# Altium schematic symbol library AD100.SchLib: 115 symbols
Pins are listed as number, name and electrical type; pins without a type are passive.

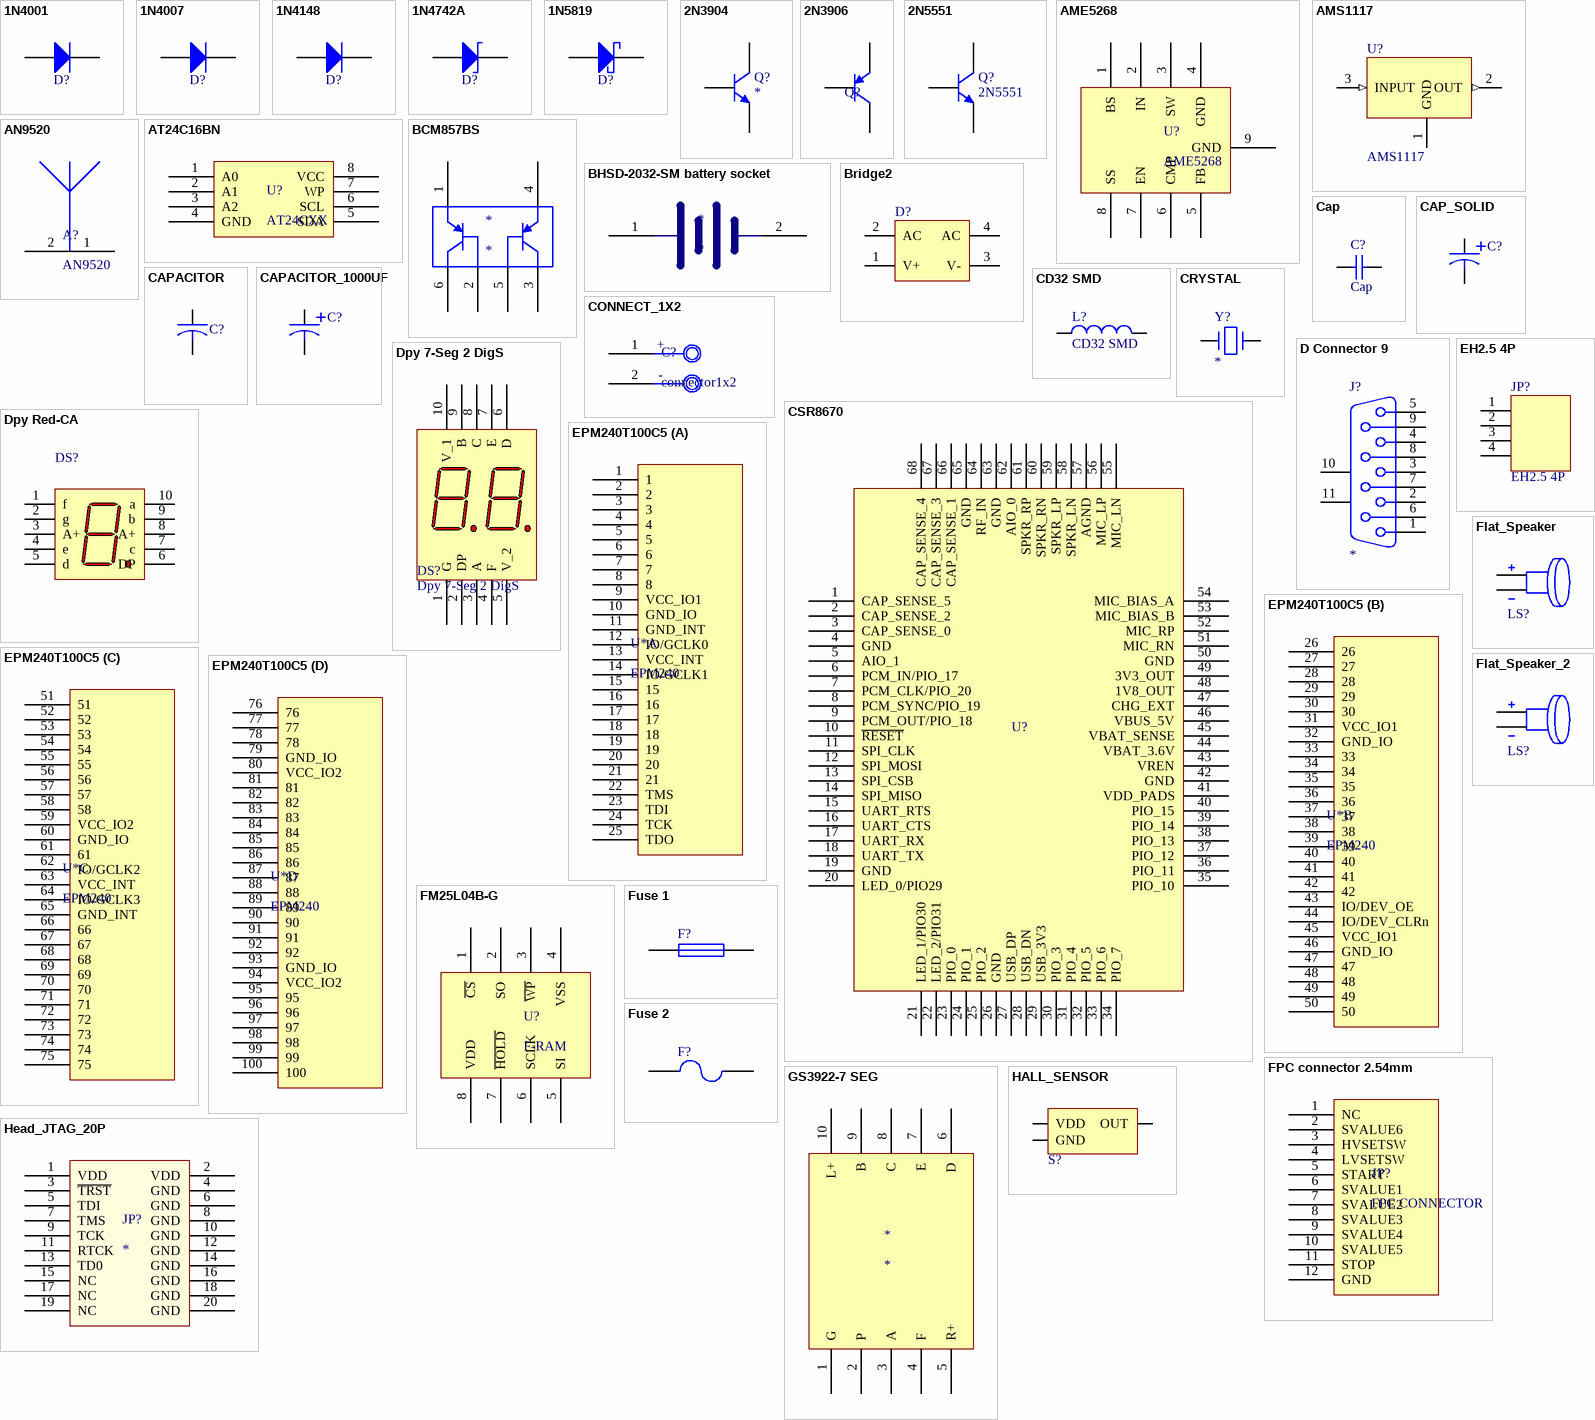
[diagram p0: symbols 1N4001 to Head_JTAG_20P]

## 1N4001
designator D?  (value not drawn)
DIP大電流1A
footprint DIODE_1N4001
pins: A, K

## 1N4007
designator D?  (value not drawn)
DIP大電流1A
footprint DIODE_1N4001
pins: A, K

## 1N4148
designator D?  (value not drawn)
SMD
footprint 1206 - DIODE
pins: A, K

## 1N4742A
designator D?  (value not drawn)
DIP 12V 1W
footprint DIODE_1N4001
pins: A, K

## 1N5819
designator D?  (value not drawn)
SMD Schottky
footprint B5817WS
pins: A, K

## 2N3904
designator Q?
NPN General Purpose Amplifier; Manufacturer: Generic Components; Revision 1: 11-July-2000: SIM Model Added.; Revision 2: July-2002: Re-released for DXP Platform.; Class I: Discrete; Class II: BJT - Low Power; Published: 8-Jun-2000; Datasheet: Latest Revision: 1997; Package Reference: TO-92A; Publisher: Altium Limited
footprint SOT23
simulation model 2N3904 (NPN)
signal-integrity model 2N3904
pins: 1 B, 2 E, 3 C

## 2N3906
designator Q?
PNP General Purpose Amplifier; Manufacturer: Generic Components; Revision 1: 11-July-2000: SIM Model Added.; Revision 2: July-2002: Re-released for DXP Platform.; Class I: Discrete; Class II: BJT - Low Power; Published: 8-Jun-2000; Datasheet: Latest Revision: 1997; Package Reference: TO-92A; Publisher: Altium Limited
simulation model 2N3906 (PNP)
signal-integrity model 2N3906
footprint SOT23
pins: 1 E, 2 B, 3 C

## 2N5551
designator Q?
NPN General Purpose Amplifier; Manufacturer: Generic Components; Revision 1: 11-July-2000: SIM Model Added.; Revision 2: July-2002: Re-released for DXP Platform.; Class I: Discrete; Class II: BJT - Low Power; Published: 8-Jun-2000; Datasheet: Latest Revision: 1997; Package Reference: TO-92A; Publisher: Altium Limited
footprint SOT23
simulation model 2N5551 (NPN)
signal-integrity model 2N5551
pins: 1 B, 2 E, 3 C

## AME5268
designator U?
footprint SOP-8/PP
pins: 1 BS, 2 IN, 3 SW, 4 GND, 5 FB, 6 CMP, 7 EN, 8 SS, 9 GND

## AMS1117
designator U?
footprint SOT223 (AMS1117)
pins: 1 GND, 2 OUT (out), 3 INPUT (in)

## AN9520
designator A?
footprint AN9520 (2.45GHz antenna)
pins: 1, 2

## AT24C16BN
designator U?, comment AT24CXX
footprint SOP-8
pins: 1 A0, 2 A1, 3 A2, 4 GND, 5 SDA, 6 SCL, 7 WP, 8 VCC

## BCM857BS
designator *
footprint SOT323 (SOT 323 foot print)
pins: 1, 2, 3, 4, 5, 6

## BHSD-2032-SM battery socket
designator *
footprint BHSD-2032-SM battery socket
pins: 1 VCC, 2 GND

## Bridge2
designator D?
Diode Bridge; Manufacturer: Generic Components; Class I: Discrete; Class II: Rectifier - Bridge; Published: 24-Mar-1999; Revision: July-2002: Re-released for DXP Platform.; Publisher: Altium Limited
simulation model BRIDGE (Spice Subcircuit)
footprint DB107G
pins: 1 V+, 2 AC, 3 V-, 4 AC

## Cap
designator C?
Capacitor; Manufacturer: Generic Components; Class I: Passive; Published: 8-Jun-2000; Revision: July-2002: Re-released for DXP Platform.; Publisher: Altium Limited; Class II: Capacitor
footprint 0603C
simulation model CAP (Capacitor)
signal-integrity model Cap
footprint 0805C
pins: 1, 2

## CAP_SOLID
designator C?
Capacitor
footprint GOLD CAP
pins: 1, 2
2 alternate drawings of the same symbol

## CAPACITOR
designator C?
Capacitor
footprint CAP_TANTALUM_B2
footprint 3528B taltanlum
pins: 1, 2
2 alternate drawings of the same symbol

## CAPACITOR_1000UF
designator C?
Capacitor
footprint R_CAPACITOR
pins: 1, 2
2 alternate drawings of the same symbol

## CD32 SMD
designator L?
Inductor CD32 SMD; Manufacturer: Generic Components; Class I: Passive; Value: 50mH; Published: 8-Jun-2000; Revision: July-2002: Re-released for DXP Platform.; Publisher: Altium Limited; Class II: Inductor
footprint CD32 SMD inductor
simulation model INDUCTOR (Inductor)
signal-integrity model Inductor
pins: 1, 2

## CONNECT_1X2
designator C?, comment connector1x2
footprint connect1X2
pins: 1, 2
text: +; -

## CRYSTAL
designator Y?
Crystal
footprint XTAL-D
pins: 1, 2
2 alternate drawings of the same symbol

## CSR8670
designator U?  (value not drawn)
footprint CSR8670_core (CSR8670 core board footprint)
pins: 1 CAP_SENSE_5, 2 CAP_SENSE_2, 3 CAP_SENSE_0, 4 GND, 5 AIO_1, 6 PCM_IN/PIO_17, 7 PCM_CLK/PIO_20, 8 PCM_SYNC/PIO_19, 9 PCM_OUT/PIO_18, 10 ~{RESET}, 11 SPI_CLK, 12 SPI_MOSI, 13 SPI_CSB, 14 SPI_MISO, 15 UART_RTS, 16 UART_CTS, 17 UART_RX, 18 UART_TX, 19 GND, 20 LED_0/PIO29, 21 LED_1/PIO30, 22 LED_2/PIO31, 23 PIO_0, 24 PIO_1, 25 PIO_2, 26 GND, 27 USB_DP, 28 USB_DN, 29 USB_3V3, 30 PIO_3, 31 PIO_4, 32 PIO_5, 33 PIO_6, 34 PIO_7, 35 PIO_10, 36 PIO_11, 37 PIO_12, 38 PIO_13, 39 PIO_14, 40 PIO_15, 41 VDD_PADS, 42 GND, 43 VREN, 44 VBAT_3.6V, 45 VBAT_SENSE, 46 VBUS_5V, 47 CHG_EXT, 48 1V8_OUT, 49 3V3_OUT, 50 GND, 51 MIC_RN, 52 MIC_RP, 53 MIC_BIAS_B, 54 MIC_BIAS_A, 55 MIC_LN, 56 MIC_LP, 57 AGND, 58 SPKR_LN, 59 SPKR_LP, 60 SPKR_RN, 61 SPKR_RP, 62 AIO_0, 63 GND, 64 RF_IN, 65 GND, 66 CAP_SENSE_1, 67 CAP_SENSE_3, 68 CAP_SENSE_4

## D Connector 9
designator J?
Receptacle Assembly, 9 Position, Right Angle; Manufacturer: Generic Components; Package Information: Latest Revision: O; Class I: Connector; Positions: 9; Published: 15-Jun-2001; Revision: July-2002: Re-released for DXP Platform.; Datasheet: (1-Sep-1999); Package Reference: 788750; Publisher: Altium Limited; Orientation: Right Angle; Gender: Receptacle
footprint DSUB1.385-2H9
signal-integrity model Connector
pins: 1, 2, 3, 4, 5, 6, 7, 8, 9, 10 MH1, 11 MH2

## Dpy 7-Seg 2 DigS
designator DS?
13.7 mm Gray Surface As AlInGaP Red Alphanumeric Display: 2-Character, CC; Published: 8-Jun-2000; LatestRevisionDate: 17-Dec-2003; LatestRevisionNote: Schematic revised, PCB Footprint replaced.; DatasheetVersion: 20-Nov-2001; PackageVersion: 20-Nov-2001; PackageReference: HDSP-A2; Publisher: Altium Limited; PackageDescription: LED, Alphanumeric Display, 13.8 mm, Dual Character; 18 Leads; Row Space 15.24 mm; Pitch 2.54 mm; Colour: As AlInGaP Red; ComponentLink1Description: Manufacturer Link; ComponentLink1URL: http://www.agilent.com/
simulation model HDSP_A27C (SUBCKT)
footprint 7 SEG DISPLAY
footprint 7 seg SMT
pins: 1 G, 2 DP, 3 A, 4 F, 5 V_2, 6 D, 7 E, 8 C, 9 B, 10 V_1

## Dpy Red-CA
designator DS?
7.62 mm Black Surface HER 7-Segment Display: CA, RH DP; MinimumIntensity: 360 ucd; Note: IF = 5 mA; Colour: High Efficiency Red (HER); Note: Pins 1 and 6 are redundant Anodes.; Published: 8-Jun-2000; LatestRevisionDate: 17-Dec-2003; LatestRevisionNote: Schematic revised, PCB Footprint replaced.; DatasheetVersion: 19-Feb-2002; PackageVersion: 11-Feb-2002; PackageReference: A; Publisher: Altium Limited; PackageDescription: LED, 7-Segment Display, 7.62 mm, RHD; 10 Leads; Row Space 5.08 mm; Pitch 2.54 mm; ComponentLink1Description: Manufacturer Link; ComponentLink1URL: http://www.agilent.com/
simulation model HDSP_A211 (SUBCKT)
footprint 7 seg 1 number
pins: 1 f "Cathode", 2 g "Cathode", 3 A+ "Cathode", 4 e "Cathode", 5 d "Cathode", 6 DP "Cathode", 7 c "Cathode", 8 A+ "Cathode", 9 b "Anode", 10 a "Anode"

## EH2.5 4P
designator JP?
EH2.5mm Header, 4-Pin; Manufacturer: Generic Components; Class I: Connector; Revision: July-2002: Re-released for DXP Platform.; Publisher: Altium Limited
signal-integrity model Connector
footprint EH2.5mm 4P
pins: 1, 2, 3, 4

## EPM240T100C5
designator U*, comment EPM240
footprint TQFP100
part A pins: 1, 2, 3, 4, 5, 6, 7, 8, 9 VCC_IO1, 10 GND_IO, 11 GND_INT, 12 IO/GCLK0, 13 VCC_INT, 14 IO/GCLK1, 15, 16, 17, 18, 19, 20, 21, 22 TMS, 23 TDI, 24 TCK, 25 TDO
part B pins: 26, 27, 28, 29, 30, 31 VCC_IO1, 32 GND_IO, 33, 34, 35, 36, 37, 38, 39, 40, 41, 42, 43 IO/DEV_OE, 44 IO/DEV_CLRn, 45 VCC_IO1, 46 GND_IO, 47, 48, 49, 50
part C pins: 51, 52, 53, 54, 55, 56, 57, 58, 59 VCC_IO2, 60 GND_IO, 61, 62 IO/GCLK2, 63 VCC_INT, 64 IO/GCLK3, 65 GND_INT, 66, 67, 68, 69, 70, 71, 72, 73, 74, 75
part D pins: 76, 77, 78, 79 GND_IO, 80 VCC_IO2, 81, 82, 83, 84, 85, 86, 87, 88, 89, 90, 91, 92, 93 GND_IO, 94 VCC_IO2, 95, 96, 97, 98, 99, 100

## Flat_Speaker
designator LS?, comment 6.5mm 5V buzzer  (value not drawn)
Loudspeaker; Manufacturer: Generic Components; Published: 24-Mar-1999; Revision: July-2002: Re-released for DXP Platform.; Publisher: Altium Limited
footprint HDR1X2
pins: 1, 2

## Flat_Speaker_2
designator LS?, comment HYG-5030 buzzer  (value not drawn)
Loudspeaker; Manufacturer: Generic Components; Published: 24-Mar-1999; Revision: July-2002: Re-released for DXP Platform.; Publisher: Altium Limited
footprint HYG-5030
pins: 1, 2

## FM25L04B-G
designator U?, comment F-RAM
footprint SOP-8
pins: 1 ~{CS}, 2 SO, 3 ~{WP}, 4 VSS, 5 SI, 6 SCLK, 7 ~{HOLD}, 8 VDD

## FPC connector 2.54mm
designator JP?, comment FPC CONNECTOR
footprint FPC CONNECTOR 2.5mm
pins: 1 NC, 2 SVALUE6, 3 HVSETSW, 4 LVSETSW, 5 START, 6 SVALUE1, 7 SVALUE2, 8 SVALUE3, 9 SVALUE4, 10 SVALUE5, 11 STOP, 12 GND

## Fuse 1
designator F?
Fuse; Published: 8-Jun-2000; LatestRevisionDate: 17-Jul-2002; LatestRevisionNote: Re-released for DXP Platform.; PackageReference: PIN-W2/E2.8; Publisher: Altium Limited; PackageDescription: Thru-Hole; 2 Leads
simulation model FUSE (Spice Subcircuit)
footprint 1812_SMD
pins: 1, 2

## Fuse 2
designator F?
Fuse; Published: 8-Jun-2000; LatestRevisionDate: 17-Jul-2002; LatestRevisionNote: Re-released for DXP Platform.; PackageReference: PIN-W2/E2.8; Publisher: Altium Limited; PackageDescription: Thru-Hole; 2 Leads
simulation model FUSE (Spice Subcircuit)
footprint BLX-A (fuse box)
pins: 1, 2

## GS3922-7 SEG
designator *
footprint GS3922-7 seg
pins: 1 G, 2 P, 3 A, 4 F, 5 R+, 6 D, 7 E, 8 C, 9 B, 10 L+

## HALL_SENSOR
designator S?, comment AH108N  (value not drawn)
TSOT23 Hall sensor
footprint TSOT23(2)
pins: 1 VDD, 2 GND (power), 3 OUT

## Head_JTAG_20P
designator JP?
footprint JTAG_20P
pins: 1 VDD, 2 VDD, 3 ~{TRST}, 4 GND, 5 TDI, 6 GND, 7 TMS, 8 GND, 9 TCK, 10 GND, 11 RTCK, 12 GND, 13 TD0, 14 GND, 15 NC, 16 GND, 17 NC, 18 GND, 19 NC, 20 GND

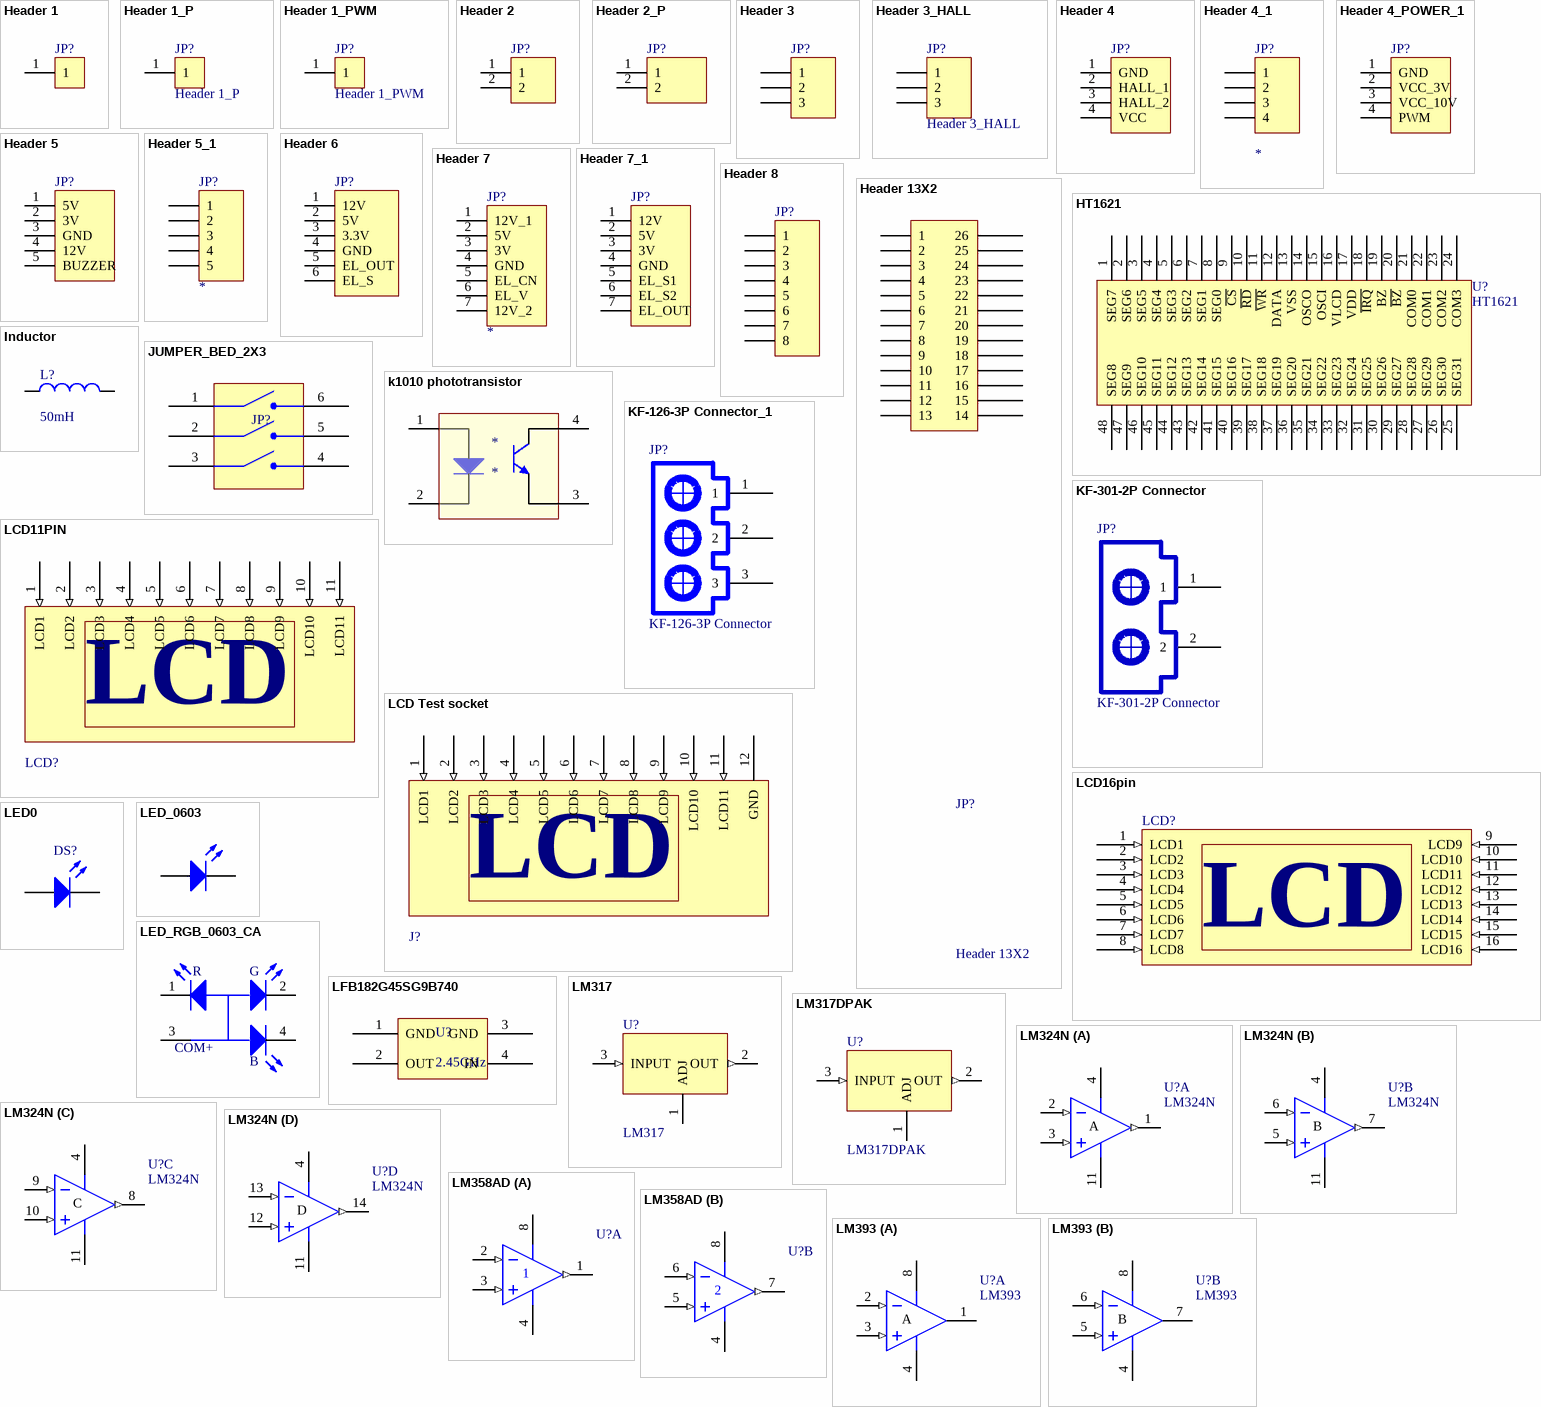
[diagram p1: symbols Header 1 to LM393]

## Header 1
designator JP?
Header, 1-Pin; Manufacturer: Generic Components; Class I: Connector; Revision: July-2002: Re-released for DXP Platform.; Publisher: Altium Limited
signal-integrity model Connector
footprint PIN1
pins: 1

## Header 1_P
designator JP?
Header, 1-Pin Power; Manufacturer: Generic Components; Class I: Connector; Revision: July-2002: Re-released for DXP Platform.; Publisher: Altium Limited
signal-integrity model Connector
footprint PIN2_P_NEW
pins: 1

## Header 1_PWM
designator JP?
Header, 1-Pin Power; Manufacturer: Generic Components; Class I: Connector; Revision: July-2002: Re-released for DXP Platform.; Publisher: Altium Limited
signal-integrity model Connector
footprint PIN1_PWM
pins: 1

## Header 2
designator JP?
Header, 4-Pin, POWER; Manufacturer: Generic Components; Class I: Connector; Revision: July-2002: Re-released for DXP Platform.; Publisher: Altium Limited
signal-integrity model Connector
footprint HDR1X2
footprint HDR1X2_no_frame
pins: 1, 2

## Header 2_P
designator JP?
Header, 4-Pin, POWER; Manufacturer: Generic Components; Class I: Connector; Revision: July-2002: Re-released for DXP Platform.; Publisher: Altium Limited
signal-integrity model Connector
footprint PIN4_P
pins: 1, 2

## Header 3
designator JP?
Header, 3-Pin; Manufacturer: Generic Components; Class I: Connector; Revision: July-2002: Re-released for DXP Platform.; Publisher: Altium Limited
signal-integrity model Connector
footprint HDR1X3_UART
footprint HDR1X3_1.2UART
pins: 1, 2, 3

## Header 3_HALL
designator JP?
Header, 3-Pin HALL; Manufacturer: Generic Components; Class I: Connector; Revision: July-2002: Re-released for DXP Platform.; Publisher: Altium Limited
signal-integrity model Connector
footprint HDR1X3_HALL - duplicate
pins: 1, 2, 3

## Header 4
designator JP?
Header, 4-Pin; Manufacturer: Generic Components; Class I: Connector; Revision: July-2002: Re-released for DXP Platform.; Publisher: Altium Limited
footprint HDR1X4_HALL_1
signal-integrity model Connector
pins: 1 GND, 2 HALL_1, 3 HALL_2, 4 VCC

## Header 4_1
designator JP?
Header, 4-Pin; Manufacturer: Generic Components; Class I: Connector; Revision: July-2002: Re-released for DXP Platform.; Publisher: Altium Limited
signal-integrity model Connector
footprint HDR1X4_1
pins: 1, 2, 3, 4

## Header 4_POWER_1
designator JP?
Header, 4-Pin; Manufacturer: Generic Components; Class I: Connector; Revision: July-2002: Re-released for DXP Platform.; Publisher: Altium Limited
footprint HDR1X4_POWER
signal-integrity model Connector
pins: 1 GND, 2 VCC_3V, 3 VCC_10V, 4 PWM

## Header 5
designator JP?
Header, 5-Pin; Manufacturer: Generic Components; Class I: Connector; Revision: July-2002: Re-released for DXP Platform.; Publisher: Altium Limited
footprint PIN5_S
signal-integrity model Connector
pins: 1 5V, 2 3V, 3 GND, 4 12V, 5 BUZZER

## Header 5_1
designator JP?
Header, 5-Pin; Manufacturer: Generic Components; Class I: Connector; Revision: July-2002: Re-released for DXP Platform.; Publisher: Altium Limited
footprint HDR1X5
signal-integrity model Connector
footprint HDR1X5_1.2_JTAG
pins: 1, 2, 3, 4, 5

## Header 6
designator JP?
Header, 6-Pin; Manufacturer: Generic Components; Class I: Connector; Revision: July-2002: Re-released for DXP Platform.; Publisher: Altium Limited
signal-integrity model Connector
footprint PIN6_S
pins: 1 12V, 2 5V, 3 3.3V, 4 GND, 5 EL_OUT, 6 EL_S

## Header 7
designator JP?
Header, 7-Pin; Manufacturer: Generic Components; Class I: Connector; Revision: July-2002: Re-released for DXP Platform.; Publisher: Altium Limited
footprint PIN7
signal-integrity model Connector
pins: 1 12V_1, 2 5V, 3 3V, 4 GND, 5 EL_CN, 6 EL_V, 7 12V_2

## Header 7_1
designator JP?
Header, 7-Pin; Manufacturer: Generic Components; Class I: Connector; Revision: July-2002: Re-released for DXP Platform.; Publisher: Altium Limited
footprint PIN7_S
signal-integrity model Connector
pins: 1 12V, 2 5V, 3 3V, 4 GND, 5 EL_S1, 6 EL_S2, 7 EL_OUT

## Header 8
designator JP?
Header, 5-Pin; Manufacturer: Generic Components; Class I: Connector; Revision: July-2002: Re-released for DXP Platform.; Publisher: Altium Limited
signal-integrity model Connector
footprint HDR1X8
pins: 1, 2, 3, 4, 5, 6, 7, 8

## Header 13X2
designator JP?
Header, 13 X 2-Pin; Manufacturer: Generic Components; Class I: Connector; Revision: July-2002: Re-released for DXP Platform.; Publisher: Altium Limited
signal-integrity model Connector
pins: 1, 2, 3, 4, 5, 6, 7, 8, 9, 10, 11, 12, 13, 14, 15, 16, 17, 18, 19, 20, 21, 22, 23, 24, 25, 26

## HT1621
designator U?
footprint SSOP48
pins: 1 SEG7, 2 SEG6, 3 SEG5, 4 SEG4, 5 SEG3, 6 SEG2, 7 SEG1, 8 SEG0, 9 ~{CS}, 10 ~{RD}, 11 ~{WR}, 12 DATA, 13 VSS, 14 OSCO, 15 OSCI, 16 VLCD, 17 VDD, 18 ~{IRQ}, 19 BZ, 20 ~{BZ}, 21 COM0, 22 COM1, 23 COM2, 24 COM3, 25 SEG31, 26 SEG30, 27 SEG29, 28 SEG28, 29 SEG27, 30 SEG26, 31 SEG25, 32 SEG24, 33 SEG23, 34 SEG22, 35 SEG21, 36 SEG20, 37 SEG19, 38 SEG18, 39 SEG17, 40 SEG16, 41 SEG15, 42 SEG14, 43 SEG13, 44 SEG12, 45 SEG11, 46 SEG10, 47 SEG9, 48 SEG8

## Inductor
designator L?  value 50mH
Inductor; Manufacturer: Generic Components; Class I: Passive; Published: 8-Jun-2000; Revision: July-2002: Re-released for DXP Platform.; Publisher: Altium Limited; Class II: Inductor
footprint INDUCTOR
simulation model INDUCTOR (Inductor)
signal-integrity model Inductor
footprint 0603R
pins: 1, 2

## JUMPER_BED_2X3
designator JP?, comment 2.54mm  (value not drawn)
footprint HDR2x3
pins: 1, 2, 3, 4, 5, 6

## k1010 phototransistor
designator *
footprint K10104X
pins: 1, 2, 3, 4

## KF-126-3P Connector_1
designator JP?, comment KF-126-3P Connector
footprint KF126-3P
pins: 1, 2, 3

## KF-301-2P Connector
designator JP?
footprint KF301-2P
pins: 1, 2

## LCD11PIN
designator LCD?, comment LCD  (value not drawn)
footprint LCD_11PIN
pins: 1 LCD1 (in), 2 LCD2 (in) "LCD1", 3 LCD3 (in) "LCD1", 4 LCD4 (in) "LCD1", 5 LCD5 (in) "LCD1", 6 LCD6 (in) "LCD1", 7 LCD7 (in) "LCD1", 8 LCD8 (in) "LCD1", 9 LCD9 (in) "LCD1", 10 LCD10 (in) "LCD1", 11 LCD11 (in) "LCD1"

## LCD16pin
designator LCD?, comment LCD  (value not drawn)
footprint LCD_16PIN
footprint LCD_16PIN2 (universal with 16 Pin and 11 pin)
pins: 1 LCD1 (in), 2 LCD2 (in) "LCD1", 3 LCD3 (in) "LCD1", 4 LCD4 (in) "LCD1", 5 LCD5 (in) "LCD1", 6 LCD6 (in) "LCD1", 7 LCD7 (in) "LCD1", 8 LCD8 (in) "LCD1", 9 LCD9 (in), 10 LCD10 (in), 11 LCD11 (in), 12 LCD12 (in), 13 LCD13 (in), 14 LCD14 (in), 15 LCD15 (in), 16 LCD16 (in)

## LCD Test socket
designator J?, comment LCD_SOCKET  (value not drawn)
footprint LCD DIP test socket
pins: 1 LCD1 (in), 2 LCD2 (in) "LCD1", 3 LCD3 (in) "LCD1", 4 LCD4 (in) "LCD1", 5 LCD5 (in) "LCD1", 6 LCD6 (in) "LCD1", 7 LCD7 (in) "LCD1", 8 LCD8 (in) "LCD1", 9 LCD9 (in) "LCD1", 10 LCD10 (in) "LCD1", 11 LCD11 (in) "LCD1", 12 GND
text: LCD

## LED0
designator DS?
Typical INFRARED GaAs LED; Manufacturer: Generic Components; Class I: Optoelectronic; Published: 8-Jun-2000; Revision: July-2002: Re-released for DXP Platform.; Publisher: Altium Limited; Class II: LED
simulation model LED0 (Diode)
footprint LED_DIP
footprint LED1204
footprint 1206 - LED
pins: 1 A, 2 K

## LED_0603
designator D?
Typical INFRARED GaAs LED; Manufacturer: Generic Components; Class I: Optoelectronic; Published: 8-Jun-2000; Revision: July-2002: Re-released for DXP Platform.; Publisher: Altium Limited; Class II: LED
simulation model LED0 (Diode)
footprint 0603LED
footprint 0603LED
footprint LED1204
pins: 1 A, 2 K

## LED_RGB_0603_CA
designator D?, comment RGB  (value not drawn)
Typical INFRARED GaAs LED; Manufacturer: Generic Components; Class I: Optoelectronic; Published: 8-Jun-2000; Revision: July-2002: Re-released for DXP Platform.; Publisher: Altium Limited; Class II: LED
simulation model LED0 (Diode)
footprint LED0603RGB_CA
pins: 1 R, 2 G, 3 COM+, 4 B

## LFB182G45SG9B740
designator U?, comment 2.45GHz
footprint LFB182G45SG9B740 (2.45GHz)
pins: 1 GND, 2 OUT, 3 GND, 4 IN

## LM317
designator U?
footprint SOT223 (LM317, 7803, 7805, 7812, AMS1117)
pins: 1 ADJ, 2 OUT (out), 3 INPUT (in)

## LM317DPAK
designator U?
footprint TO252
pins: 1 ADJ, 2 OUT (out), 3 INPUT (in)

## LM324N
designator U?
Quadruple Operational Amplifier; Manufacturer: Texas Instruments; Published: 16-Jan-2001; Revision: July-2002: Re-released for DXP Platform.; Datasheet: Latest Revision: Feb-1997; Package Reference: N014; Publisher: Altium Limited; Class I: Amplifier; Class II: Operational Amplifier
simulation model LM324 (SUBCKT)
footprint SOP-14
pins on every part: 4 V+ (power), 11 V- (power)
part A pins: 1 OUT (out), 2 IN- (in), 3 IN+ (in)
part B pins: 5 IN+ (in), 6 IN- (in), 7 OUT (out)
part C pins: 8 OUT (out), 9 IN- (in), 10 IN+ (in)
part D pins: 12 IN+ (in), 13 IN- (in), 14 OUT (out)
part A text: A
part B text: B
part C text: C
part D text: D

## LM358AD
designator U?
Dual Operational Amplifier; Manufacturer: Texas Instruments; Package Information: Latest Revision: Jan-1998; Published: 15-Apr-2002; Datasheet: Linear Circuits Data Book 1989 Volume 1 (Aug-1988); Package Reference: D008; Publisher: Altium Limited; Class I: Amplifier; Class II: Operational Amplifier
footprint SOP-8
pins on every part: 4 V- (power), 8 V+ (power)
part A pins: 1 OUT (out), 2 IN- (in), 3 IN+ (in)
part B pins: 5 IN+ (in), 6 IN- (in), 7 OUT (out)

## LM393
designator U?
Double Differential Comparator; Manufacturer: Texas Instruments; Package Information: Latest Revision: Jan-1998; Class I: Analog; Note: Outputs are open-collector; Published: 16-Jan-2001; Revision: July-2002: Re-released for DXP Platform.; Datasheet: Latest Revision: Nov-1996; Package Reference: D014; Publisher: Altium Limited; Class II: Comparator
footprint SOP-8
pins on every part: 4 V- (power), 8 V+ (power)
part A pins: 1 OUT (oc), 2 IN- (in), 3 IN+ (in)
part B pins: 5 IN+ (in), 6 IN- (in), 7 OUT (oc)
part A text: A
part B text: B

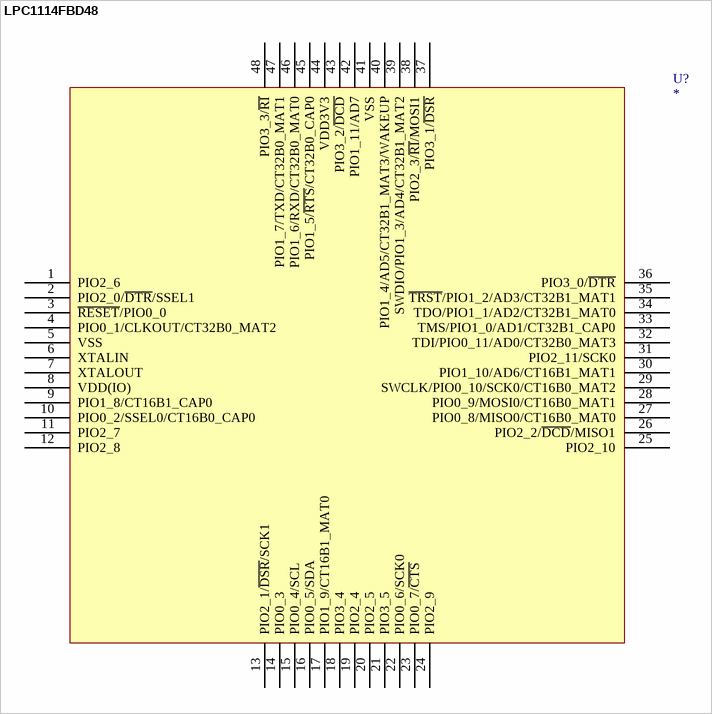
[diagram p2: symbol LPC1114FBD48]

## LPC1114FBD48
designator U?
LPC1114
footprint LQFP48
footprint LQFP48
footprint LQFP48
pins: 1 PIO2_6, 2 PIO2_0/~{DTR}/SSEL1, 3 ~{RESET}/PIO0_0, 4 PIO0_1/CLKOUT/CT32B0_MAT2, 5 VSS, 6 XTALIN, 7 XTALOUT, 8 VDD(IO), 9 PIO1_8/CT16B1_CAP0, 10 PIO0_2/SSEL0/CT16B0_CAP0, 11 PIO2_7, 12 PIO2_8, 13 PIO2_1/~{DSR}/SCK1, 14 PIO0_3, 15 PIO0_4/SCL, 16 PIO0_5/SDA, 17 PIO1_9/CT16B1_MAT0, 18 PIO3_4, 19 PIO2_4, 20 PIO2_5, 21 PIO3_5, 22 PIO0_6/SCK0, 23 PIO0_7/~{CTS}, 24 PIO2_9, 25 PIO2_10, 26 PIO2_2/~{DCD}/MISO1, 27 PIO0_8/MISO0/CT16B0_MAT0, 28 PIO0_9/MOSI0/CT16B0_MAT1, 29 SWCLK/PIO0_10/SCK0/CT16B0_MAT2, 30 PIO1_10/AD6/CT16B1_MAT1, 31 PIO2_11/SCK0, 32 TDI/PIO0_11/AD0/CT32B0_MAT3, 33 TMS/PIO1_0/AD1/CT32B1_CAP0, 34 TDO/PIO1_1/AD2/CT32B1_MAT0, 35 ~{TRST}/PIO1_2/AD3/CT32B1_MAT1, 36 PIO3_0/~{DTR}, 37 PIO3_1/~{DSR}, 38 PIO2_3/~{RI}/MOSI1, 39 SWDIO/PIO1_3/AD4/CT32B1_MAT2, 40 PIO1_4/AD5/CT32B1_MAT3/WAKEUP, 41 VSS, 42 PIO1_11/AD7, 43 PIO3_2/~{DCD}, 44 VDD3V3, 45 PIO1_5/~{RTS}/CT32B0_CAP0, 46 PIO1_6/RXD/CT32B0_MAT0, 47 PIO1_7/TXD/CT32B0_MAT1, 48 PIO3_3/~{RI}
2 alternate drawings of the same symbol

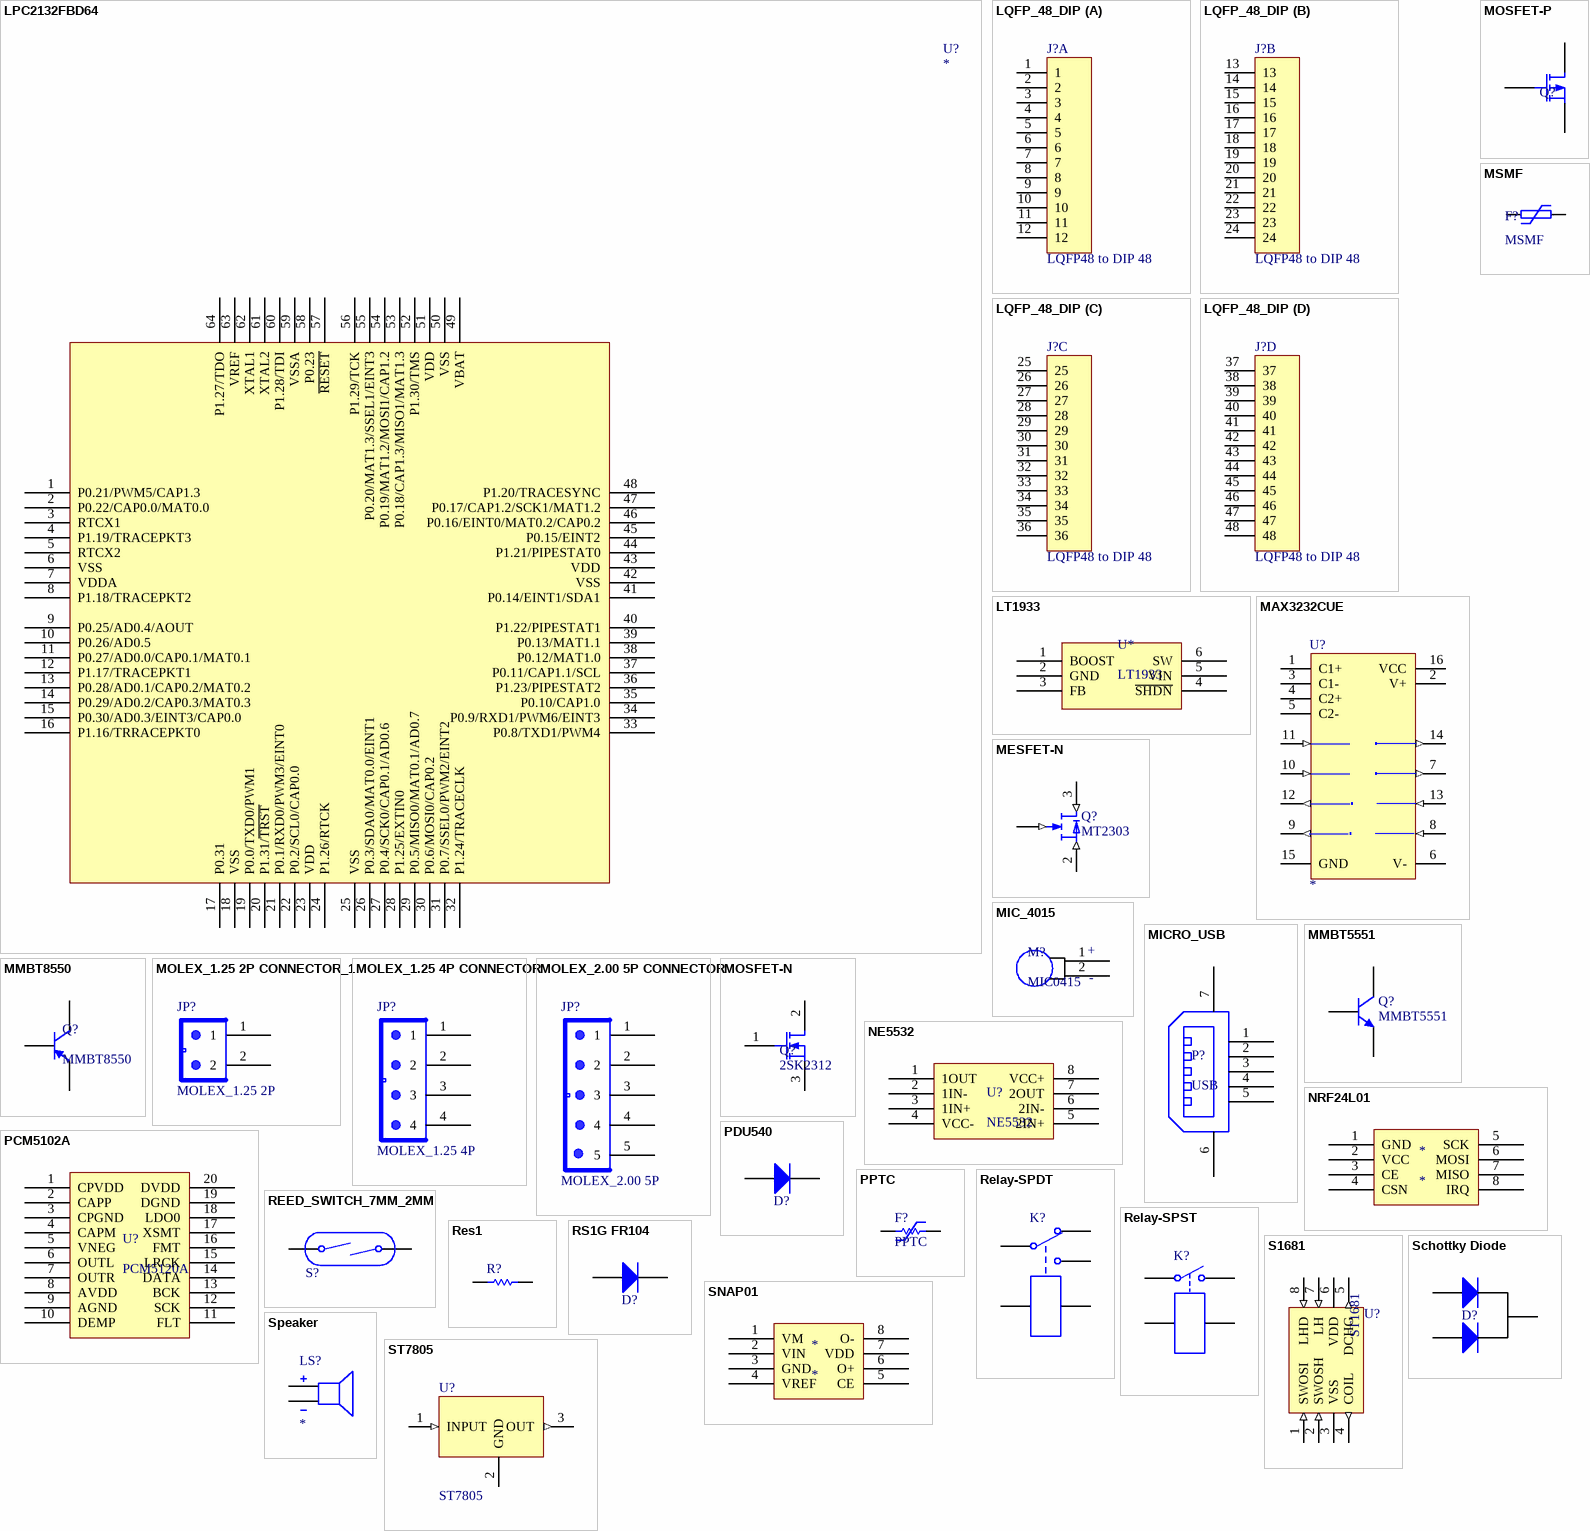
[diagram p3: symbols LPC2132FBD64 to ST7805]

## LPC2132FBD64
designator U?
LPC2132
footprint LQFP64 (LQFP64 for LPC2132)
pins: 1 P0.21/PWM5/CAP1.3, 2 P0.22/CAP0.0/MAT0.0, 3 RTCX1, 4 P1.19/TRACEPKT3, 5 RTCX2, 6 VSS, 7 VDDA, 8 P1.18/TRACEPKT2, 9 P0.25/AD0.4/AOUT, 10 P0.26/AD0.5, 11 P0.27/AD0.0/CAP0.1/MAT0.1, 12 P1.17/TRACEPKT1, 13 P0.28/AD0.1/CAP0.2/MAT0.2, 14 P0.29/AD0.2/CAP0.3/MAT0.3, 15 P0.30/AD0.3/EINT3/CAP0.0, 16 P1.16/TRRACEPKT0, 17 P0.31, 18 VSS, 19 P0.0/TXD0/PWM1, 20 P1.31/~{TRST}, 21 P0.1/RXD0/PWM3/EINT0, 22 P0.2/SCL0/CAP0.0, 23 VDD, 24 P1.26/RTCK, 25 VSS, 26 P0.3/SDA0/MAT0.0/EINT1, 27 P0.4/SCK0/CAP0.1/AD0.6, 28 P1.25/EXTIN0, 29 P0.5/MISO0/MAT0.1/AD0.7, 30 P0.6/MOSI0/CAP0.2, 31 P0.7/SSEL0/PWM2/EINT2, 32 P1.24/TRACECLK, 33 P0.8/TXD1/PWM4, 34 P0.9/RXD1/PWM6/EINT3, 35 P0.10/CAP1.0, 36 P1.23/PIPESTAT2, 37 P0.11/CAP1.1/SCL, 38 P0.12/MAT1.0, 39 P0.13/MAT1.1, 40 P1.22/PIPESTAT1, 41 P0.14/EINT1/SDA1, 42 VSS, 43 VDD, 44 P1.21/PIPESTAT0, 45 P0.15/EINT2, 46 P0.16/EINT0/MAT0.2/CAP0.2, 47 P0.17/CAP1.2/SCK1/MAT1.2, 48 P1.20/TRACESYNC, 49 VBAT, 50 VSS, 51 VDD, 52 P1.30/TMS, 53 P0.18/CAP1.3/MISO1/MAT1.3, 54 P0.19/MAT1.2/MOSI1/CAP1.2, 55 P0.20/MAT1.3/SSEL1/EINT3, 56 P1.29/TCK, 57 ~{RESET}, 58 P0.23, 59 VSSA, 60 P1.28/TDI, 61 XTAL2, 62 XTAL1, 63 VREF, 64 P1.27/TDO
2 alternate drawings of the same symbol

## LQFP_48_DIP
designator J?, comment LQFP48 to DIP 48
footprint DIP_48
part A pins: 1, 2, 3, 4, 5, 6, 7, 8, 9, 10, 11, 12
part B pins: 13, 14, 15, 16, 17, 18, 19, 20, 21, 22, 23, 24
part C pins: 25, 26, 27, 28, 29, 30, 31, 32, 33, 34, 35, 36
part D pins: 37, 38, 39, 40, 41, 42, 43, 44, 45, 46, 47, 48

## LT1933
designator U*
footprint SOT23-6
pins: 1 BOOST, 2 GND, 3 FB, 4 ~{SHDN}, 5 VIN, 6 SW

## MAX3232CUE
designator U?
3.0V TO 5.5V, Low-Power, up to 1Mbps, True RS-232 Transceiver Using Four 0.1湩 External Capacitor; Manufacturer: Maxim; Package Information: Latest Revision: 21-0066 C; Class I: Communication; Published: 16-Jan-2001; Revision: July-2002: Re-released for DXP Platform.; Datasheet: Latest Revision: Mar-1999; Package Reference: TSSOP16; Publisher: Altium Limited; Class II: Transceiver
footprint DIP-16/X1.5
pins: 1 C1+, 2 V+ (power), 3 C1-, 4 C2+, 5 C2-, 6 V- (power), 7 T2OUT (out), 8 R2IN (in), 9 R2OUT (out), 10 T2IN (in), 11 T1IN (in), 12 R1OUT (out), 13 R1IN (in), 14 T1OUT (out), 15 GND (power), 16 VCC (power)

## MESFET-N
designator Q?, comment MT2303
N-Channel MESFET MT2303 SOT23; Manufacturer: Generic Components; Class I: Discrete; Published: 8-Jun-2000; Revision: July-2002: Re-released for DXP Platform.; Publisher: Altium Limited; Class II: MESFET
footprint SOT23
simulation model NMESFET (MESFET-N)
pins: 1 G (in), 2 S (in), 3 D (in)

## MIC_4015
designator M?, comment MIC0415
footprint MIC0415 (Microphone 0415)
pins: 1 +, 2
text: -

## MICRO_USB
designator P?, comment USB
footprint MICRO_USB (micro USB socket)
pins: 1, 2, 3, 4, 5, 6, 7

## MMBT5551
designator Q?
NPN General Purpose Amplifier; Manufacturer: Generic Components; Revision 1: 11-July-2000: SIM Model Added.; Revision 2: July-2002: Re-released for DXP Platform.; Class I: Discrete; Class II: BJT - Low Power; Published: 8-Jun-2000; Datasheet: Latest Revision: 1997; Package Reference: TO-92A; Publisher: Altium Limited
footprint SOT23
simulation model 2N5551 (NPN)
signal-integrity model 2N5551
pins: 1 B, 2 E, 3 C

## MMBT8550
designator Q?
footprint SOT23
pins: 1 B, 2 E, 3 C

## MOLEX_1.25 2P CONNECTOR_1
designator JP?, comment MOLEX_1.25 2P
footprint Molex_1.25_2P
footprint Molex_1.25_2P
pins: 1, 2

## MOLEX_1.25 4P CONNECTOR
designator JP?, comment MOLEX_1.25 4P
footprint Molex_1.25_4P
footprint Molex_1.25_4P
pins: 1, 2, 3, 4

## MOLEX_2.00 5P CONNECTOR
designator JP?, comment MOLEX_2.00 5P
footprint PIN5_2mm
pins: 1, 2, 3, 4, 5

## MOSFET-N
designator Q?, comment 2SK2312
N-Channel MOSFET; Manufacturer: Generic Components; Class I: Discrete; Class II: MOSFET - Low Power; Published: 8-Jun-2000; Revision: July-2002: Re-released for DXP Platform.; Publisher: Altium Limited
footprint TO-220
simulation model NMOS (MOSFET-N)
pins: 1 G, 2 D, 3 S

## MOSFET-P
designator Q?
P-Channel MOSFET; Published: 8-Jun-2000; LatestRevisionDate: 17-Jul-2002; LatestRevisionNote: Re-released for DXP Platform.; PackageVersion: 1995/1996; PackageReference: E3; Publisher: Altium Limited; PackageDescription: TO, Flat Index; 3 In-Line, Axial Leads; Body Dia. 4.6mm; Lead Dia. 0.5 mm (max)
footprint SOT23
simulation model PMOS (MOSFET-P)
pins: 1 G, 2 S, 3 D

## MSMF
designator F?
MSMF250; Manufacturer: Generic Components; Class I: Passive; Class II: Resistor; Published: 8-Jun-2000; Revision: July-2002: Re-released for DXP Platform.; Publisher: Altium Limited
footprint 4523 (stand SMT 4523 foot print)
pins: 1, 2

## NE5532
designator U?
footprint SOP-8
pins: 1 1OUT, 2 1IN-, 3 1IN+, 4 VCC-, 5 2IN+, 6 2IN-, 7 2OUT, 8 VCC+

## NRF24L01
designator *
footprint NRF24L01 board
pins: 1 GND, 2 VCC, 3 CE, 4 CSN, 5 SCK, 6 MOSI, 7 MISO, 8 IRQ

## PCM5102A
designator U?, comment PCM5120A
footprint TSSOP_20 (PCM5102A)
pins: 1 CPVDD, 2 CAPP, 3 CPGND, 4 CAPM, 5 VNEG, 6 OUTL, 7 OUTR, 8 AVDD, 9 AGND, 10 DEMP, 11 FLT, 12 SCK, 13 BCK, 14 DATA, 15 LRCK, 16 FMT, 17 XSMT, 18 LDO0, 19 DGND, 20 DVDD

## PDU540
designator D?, comment PDU540 Diode  (value not drawn)
footprint PDU540_Diode
pins: 1 A, 2 K

## PPTC
designator F?
Manufacturer: Generic Components; Class I: Passive; Class II: Resistor; Published: 8-Jun-2000; Revision: July-2002: Re-released for DXP Platform.; Publisher: Altium Limited
footprint PPTC
pins: 1, 2

## REED_SWITCH_7MM_2MM
designator S?, comment REED_SWITCH_7mm_2mm  (value not drawn)
footprint Reed switch
footprint Reed switch _1MM
pins: 1, 2

## Relay-SPDT
designator K?
Single-Pole Dual-Throw Relay; Published: 24-Mar-1999; LatestRevisionDate: 17-Jul-2002; LatestRevisionNote: Re-released for DXP Platform.; PackageReference: MODULE5B; Publisher: Altium Limited
simulation model SPDTRELAY (Spice Subcircuit)
footprint SRD RELAY
pins: 1, 2, 3, 4, 5

## Relay-SPST
designator K?
Single-Pole Single-Throw Relay; Published: 24-Mar-1999; LatestRevisionDate: 17-Jul-2002; LatestRevisionNote: Re-released for DXP Platform.; PackageReference: MODULE4; Publisher: Altium Limited
simulation model SPSTRELAY (Spice Subcircuit)
pins: 1, 2, 3, 4

## Res1
designator R?
Resistor; Manufacturer: Generic Components; Class I: Passive; Published: 8-Jun-2000; Revision: July-2002: Re-released for DXP Platform.; Publisher: Altium Limited; Class II: Resistor
footprint 0603R
simulation model RESISTOR (Resistor)
signal-integrity model Res1
pins: 1, 2

## RS1G FR104
designator D?  (value not drawn)
SMD
footprint DO-214AC
pins: A, K

## S1681
designator U?, comment ST1681
footprint MSOP8
pins: 1 SWOSI (in), 2 SWOSH (in), 3 VSS (power), 4 COIL (out), 5 DCHG (out), 6 VDD (power), 7 LH (in), 8 LHD (in)

## Schottky Diode
designator D?  (value not drawn)
MBRF20100CT
footprint TO-220
pins: 1 A, 2 K, 3 A

## SNAP01
designator *
footprint SOP-8
pins: 1 VM, 2 VIN, 3 GND, 4 VREF, 5 CE, 6 O+, 7 VDD, 8 O-

## Speaker
designator LS?
Loudspeaker; Manufacturer: Generic Components; Published: 24-Mar-1999; Revision: July-2002: Re-released for DXP Platform.; Publisher: Altium Limited
footprint Buzzer
pins: 1, 2

## ST7805
designator U?
footprint TO252
pins: 1 INPUT (in), 2 GND, 3 OUT (out)

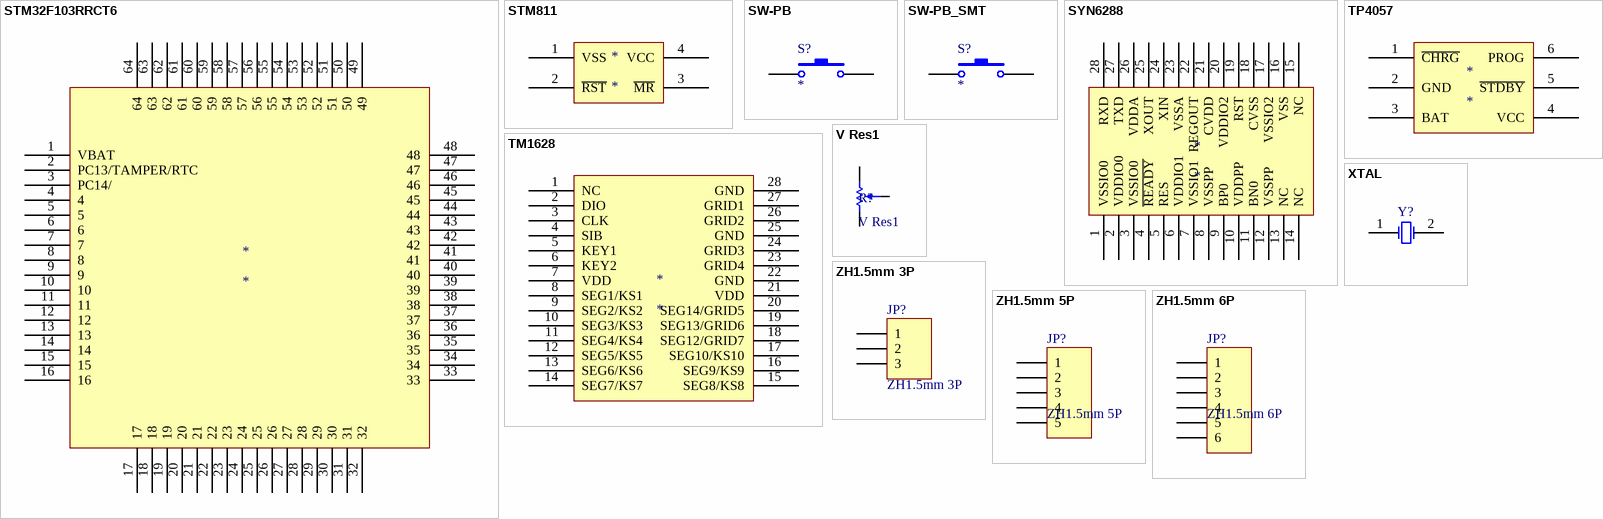
[diagram p4: symbols STM32F103RRCT6 to ZH1.5mm 6P]

## STM32F103RRCT6
designator *
pins: 1 VBAT, 2 PC13/TAMPER/RTC, 3 PC14/, 4, 5, 6, 7, 8, 9, 10, 11, 12, 13, 14, 15, 16, 17, 18, 19, 20, 21, 22, 23, 24, 25, 26, 27, 28, 29, 30, 31, 32, 33, 34, 35, 36, 37, 38, 39, 40, 41, 42, 43, 44, 45, 46, 47, 48, 49, 50, 51, 52, 53, 54, 55, 56, 57, 58, 59, 60, 61, 62, 63, 64

## STM811
designator *
footprint SOT143-4
pins: 1 VSS, 2 ~{RST}, 3 ~{MR}, 4 VCC

## SW-PB
designator S?
Switch; Manufacturer: Generic Components; Published: 24-Mar-1999; Revision: July-2002: Re-released for DXP Platform.; Publisher: Altium Limited
footprint KEY-6A
pins: 1, 2

## SW-PB_SMT
designator S?
Switch; Manufacturer: Generic Components; Published: 24-Mar-1999; Revision: July-2002: Re-released for DXP Platform.; Publisher: Altium Limited
footprint KEY-6 x 6 SMT
pins: 1, 2

## SYN6288
designator *
footprint SSOP28L (For SYN6288)
pins: 1 VSSIO0, 2 VDDIO0, 3 VSSIO0, 4 ~{READY}, 5 RES, 6 VDDIO1, 7 VSSIO1, 8 VSSPP, 9 BP0, 10 VDDPP, 11 BN0, 12 VSSPP, 13 NC, 14 NC, 15 NC, 16 VSS, 17 VSSIO2, 18 CVSS, 19 RST, 20 VDDIO2, 21 CVDD, 22 REGOUT, 23 VSSA, 24 XIN, 25 XOUT, 26 VDDA, 27 TXD, 28 RXD

## TM1628
designator *
footprint SOP-28
pins: 1 NC, 2 DIO, 3 CLK, 4 SIB, 5 KEY1, 6 KEY2, 7 VDD, 8 SEG1/KS1, 9 SEG2/KS2, 10 SEG3/KS3, 11 SEG4/KS4, 12 SEG5/KS5, 13 SEG6/KS6, 14 SEG7/KS7, 15 SEG8/KS8, 16 SEG9/KS9, 17 SEG10/KS10, 18 SEG12/GRID7, 19 SEG13/GRID6, 20 SEG14/GRID5, 21 VDD, 22 GND, 23 GRID4, 24 GRID3, 25 GND, 26 GRID2, 27 GRID1, 28 GND

## TP4057
designator *
footprint SOT23-6
pins: 1 ~{CHRG}, 2 GND, 3 BAT, 4 VCC, 5 ~{STDBY}, 6 PROG

## V Res1
designator R?
VariableResistor; Manufacturer: Generic Components; Class I: Passive; Published: 8-Jun-2000; Revision: July-2002: Re-released for DXP Platform.; Publisher: Altium Limited; Class II: Resistor
footprint SMD V_Res 3x3mm
simulation model RESISTOR (Resistor)
signal-integrity model Res1
footprint B10K
pins: 1, 2, 3

## XTAL
designator Y?
Crystal Oscillator; Published: 8-Jun-2000; LatestRevisionDate: 17-Jul-2002; LatestRevisionNote: Re-released for DXP Platform.; PackageReference: R38; Publisher: Altium Limited; PackageDescription: Crystal, Thru-Hole; 2 Leads; Body 3.1 x 8.2 mm (Dia.xH)
simulation model XTAL (Spice Subcircuit)
footprint XTAL_49S
footprint XTAL-MINI (32768Khz)
pins: 1 OSC1, 2 OSC2

## ZH1.5mm 3P
designator JP?
ZH1.5mm Header, 3-Pin; Manufacturer: Generic Components; Class I: Connector; Revision: July-2002: Re-released for DXP Platform.; Publisher: Altium Limited
signal-integrity model Connector
footprint ZH1.5mm 3P
pins: 1, 2, 3

## ZH1.5mm 5P
designator JP?
ZH1.5mm Header, 5Pin; Manufacturer: Generic Components; Class I: Connector; Revision: July-2002: Re-released for DXP Platform.; Publisher: Altium Limited
signal-integrity model Connector
footprint ZH1.5mm 5P
pins: 1, 2, 3, 4, 5

## ZH1.5mm 6P
designator JP?
ZH1.5mm Header, 6Pin; Manufacturer: Generic Components; Class I: Connector; Revision: July-2002: Re-released for DXP Platform.; Publisher: Altium Limited
signal-integrity model Connector
footprint ZH1.5mm 6P
pins: 1, 2, 3, 4, 5, 6